# Altium footprint library IMU.PcbLib: 2 footprints
Each footprint in its own frame and in the unit in brackets; x right, y up, seen from the top. Pads: shape width x height; smd on the part's side, far side on the other; paste and mask are expansions set on the pad; w line width, h text height; cw(c..) or ccw(c..) is an arc to the next point about the centre after c.
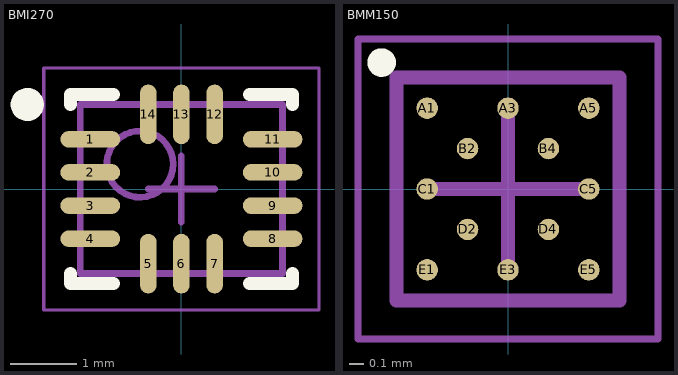
[diagram p0: the footprints below, top view; thin cyan lines are the x and y axes]

## BMI270 [mm] "QFN, 14-Leads, Body 3.00x2.50mm, Pitch 0.50mm, IPC Medium Density"
height 0.87
pads (14):
  oval 0.9x0.25 smd: 1(-1.375,0.75) 2(-1.375,0.25) 3(-1.375,-0.25) 4(-1.375,-0.75) 8(1.375,-0.75) 9(1.375,-0.25) 10(1.375,0.25) 11(1.375,0.75)
  oval 0.25x0.9 smd: 5(-0.5,-1.125) 6(0,-1.125) 7(0.5,-1.125) 12(0.5,1.125) 13(0,1.125) 14(-0.5,1.125)
Top Overlay:
  circle w0.25: c-2.325,1.275 r0.125
  lines w0.2: -1.675,-1.275 -1.675,-1.425 -1.025,-1.425 ; -1.675,1.275 -1.675,1.425 -1.025,1.425 ; 1.025,-1.425 1.675,-1.425 1.675,-1.275 ; 1.025,1.425 1.675,1.425 1.675,1.275
Mechanical 13:
  circle w0.1: c-0.625,0.375 r0.5
  lines w0.1: -1.525,-1.275 1.525,-1.275 1.525,1.275 -1.525,1.275 -1.525,-1.275
Mechanical 15:
  lines w0.05: -2.075,-1.825 2.075,-1.825 2.075,1.825 -2.075,1.825 -2.075,-1.825
  lines w0.1: -0.5,0 0.5,0 ; 0,-0.5 0,0.5
3D body "QFN50P300X250X87-14N.step": height 0.87, standoff 0, extent -1.525,-1.275 1.525,1.275

## BMM150 [mm] "BGA, 12-Leads, Body 1.56x1.56mmx0.40mm, Pitch 0.28mm"
height 0.4
pads (12):
  round 0.15 smd: A1(-0.566,0.566) A3(0,0.566) A5(0.566,0.566) B2(-0.283,0.283) B4(0.283,0.283) C1(-0.566,0) C5(0.566,0) D2(-0.283,-0.283) D4(0.283,-0.283) E1(-0.566,-0.566) E3(0,-0.566) E5(0.566,-0.566)
Top Overlay:
  circle w0.1: c-0.885,0.885 r0.05
Mechanical 13:
  lines w0.1: -0.78,-0.78 -0.78,0.78 0.78,0.78 0.78,-0.78 -0.78,-0.78
Mechanical 15:
  lines w0.05: -1.05,-1.05 -1.05,1.05 1.05,1.05 1.05,-1.05 -1.05,-1.05
  lines w0.1: -0.5,0 0.5,0 ; 0,-0.5 0,0.5
3D body "BGAS12C28P5X5_156X156X40.step": height 0.4, standoff 0, extent -0.78,-0.78 0.78,0.78